# EAGLE library part TSB41AB2 (library NewSDR)
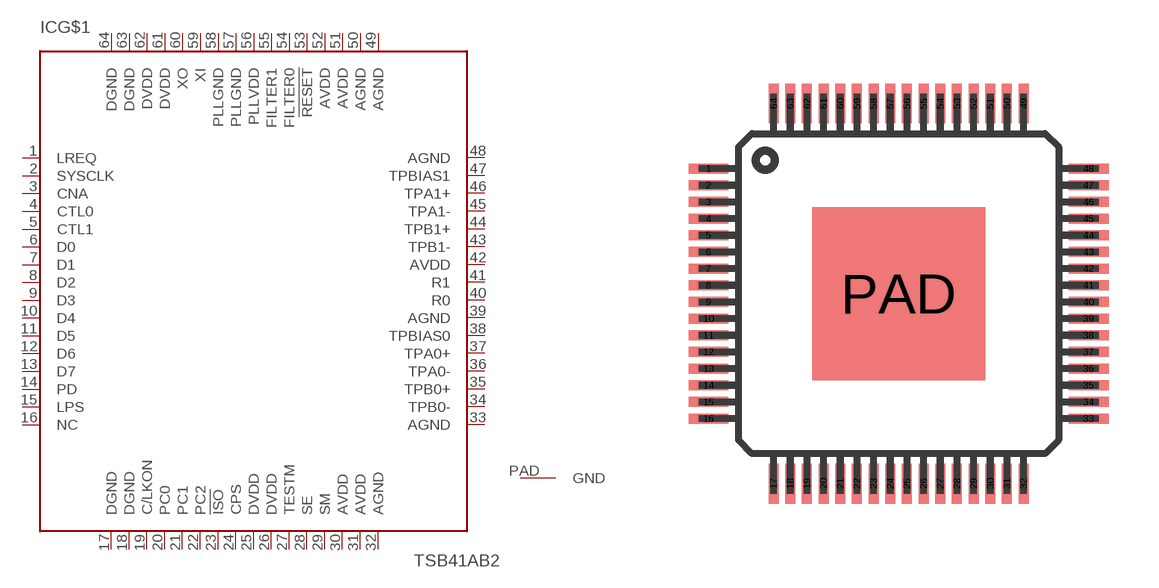
[diagram p44: symbol with the pads of TQFP64-PAD; footprint TQFP64-PAD]

Designator prefix IC; gates G$1=TSB41AB2 G$2=PWRPAD

## TSB41AB2  [TQFP64-PAD]
1  G$1:LREQ
2  G$1:SYSCLK
3  G$1:CNA
4  G$1:CTL0
5  G$1:CTL1
6  G$1:D0
7  G$1:D1
8  G$1:D2
9  G$1:D3
10  G$1:D4
11  G$1:D5
12  G$1:D6
13  G$1:D7
14  G$1:PD
15  G$1:LPS
16  G$1:NC
17  G$1:DGND
18  G$1:DGND
19  G$1:C/LKON
20  G$1:PC0
21  G$1:PC1
22  G$1:PC2
23  G$1:!ISO
24  G$1:CPS
25  G$1:DVDD
26  G$1:DVDD
27  G$1:TESTM
28  G$1:SE
29  G$1:SM
30  G$1:AVDD
31  G$1:AVDD
32  G$1:AGND
33  G$1:AGND
34  G$1:TPB0-
35  G$1:TPB0+
36  G$1:TPA0-
37  G$1:TPA0+
38  G$1:TPBIAS0
39  G$1:AGND
40  G$1:R0
41  G$1:R1
42  G$1:AVDD
43  G$1:TPB1-
44  G$1:TPB1+
45  G$1:TPA1-
46  G$1:TPA1+
47  G$1:TPBIAS1
48  G$1:AGND
49  G$1:AGND
50  G$1:AGND
51  G$1:AVDD
52  G$1:AVDD
53  G$1:!RESET
54  G$1:FILTER0
55  G$1:FILTER1
56  G$1:PLLVDD  pwr
57  G$1:PLLGND
58  G$1:PLLGND
59  G$1:XI
60  G$1:XO
61  G$1:DVDD
62  G$1:DVDD
63  G$1:DGND
64  G$1:DGND
PAD  G$2:GND  pwr

## Footprint TQFP64-PAD (pad centres in mm)
smd 1.2 x 0.3: 1 -5.7,3.75; 2 -5.7,3.25; 3 -5.7,2.75; 4 -5.7,2.25; 5 -5.7,1.75; 6 -5.7,1.25; 7 -5.7,0.75; 8 -5.7,0.25; 9 -5.7,-0.25; 10 -5.7,-0.75; 11 -5.7,-1.25; 12 -5.7,-1.75; 13 -5.7,-2.25; 14 -5.7,-2.75; 15 -5.7,-3.25; 16 -5.7,-3.75; 33 5.7,-3.75; 34 5.7,-3.25; 35 5.7,-2.75; 36 5.7,-2.25; 37 5.7,-1.75; 38 5.7,-1.25; 39 5.7,-0.75; 40 5.7,-0.25; 41 5.7,0.25; 42 5.7,0.75; 43 5.7,1.25; 44 5.7,1.75; 45 5.7,2.25; 46 5.7,2.75; 47 5.7,3.25; 48 5.7,3.75
smd 0.3 x 1.2: 17 -3.75,-5.7; 18 -3.25,-5.7; 19 -2.75,-5.7; 20 -2.25,-5.7; 21 -1.75,-5.7; 22 -1.25,-5.7; 23 -0.75,-5.7; 24 -0.25,-5.7; 25 0.25,-5.7; 26 0.75,-5.7; 27 1.25,-5.7; 28 1.75,-5.7; 29 2.25,-5.7; 30 2.75,-5.7; 31 3.25,-5.7; 32 3.75,-5.7; 49 3.75,5.7; 50 3.25,5.7; 51 2.75,5.7; 52 2.25,5.7; 53 1.75,5.7; 54 1.25,5.7; 55 0.75,5.7; 56 0.25,5.7; 57 -0.25,5.7; 58 -0.75,5.7; 59 -1.25,5.7; 60 -1.75,5.7; 61 -2.25,5.7; 62 -2.75,5.7; 63 -3.25,5.7; 64 -3.75,5.7
smd 5.19 x 5.19: PAD 0,0